# Altium schematic symbol library LevelConverters.SchLib: 2 symbols
Pins are listed as number, name and electrical type; pins without a type are passive.

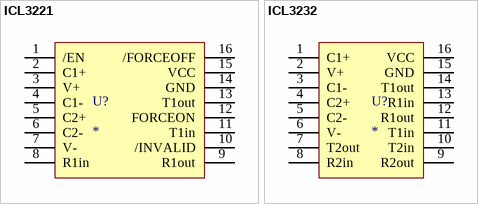
[diagram p0: symbols ICL3221 to ICL3232]

## ICL3221
designator U?
+3V to +5.5V,  250kbps, RS-232 Transmitter/Receiver
footprint 16TSSOP (TSSOP, 16-Leads, Body 5.1x4.5mm (max), Pitch 0.65mm, IPC Medium Density)
pins: 1 /EN, 2 C1+, 3 V+, 4 C1-, 5 C2+, 6 C2-, 7 V-, 8 R1in, 9 R1out, 10 /INVALID, 11 T1in, 12 FORCEON, 13 T1out, 14 GND, 15 VCC, 16 /FORCEOFF

## ICL3232
designator U?
+3V to +5.5V,  250kbps, RS-232 Transmitter/Receiver
footprint 16TSSOP (TSSOP, 16-Leads, Body 5.1x4.5mm (max), Pitch 0.65mm, IPC Medium Density)
pins: 1 C1+, 2 V+, 3 C1-, 4 C2+, 5 C2-, 6 V-, 7 T2out, 8 R2in, 9 R2out, 10 T2in, 11 T1in, 12 R1out, 13 R1in, 14 T1out, 15 GND, 16 VCC